# Altium schematic symbol library RF Antennas.SchLib: 2 symbols
Pins are listed as number, name and electrical type; pins without a type are passive.

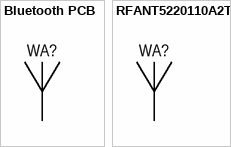
[diagram p0: symbols Bluetooth PCB to RFANT5220110A2T]

## Bluetooth PCB
designator WA?, comment PCB Bluetooth Antenna  (value not drawn)  (no BOM)
Bluetooth PCB Antenna; Group: RF Antennas; Part name: PCB Bluetooth Antenna; Dimension: 14.50mm x 5.50mm
footprint PCB Antenna Bluetooth
pins: 1

## RFANT5220110A2T
designator WA?  (value not drawn)
Bluetooth Chip Antenna; Manufacturer: Walsin Technology Corporation; Group: RF Antennas; Impedance: 50Ω; Power max: 3W; Gain: 2 dBi; Frequency Range: 2.4GHz ～ 2.5GHz; Package: 5220; Part name: RFANT5220110A2T; Operating Temperature: -40°C +85°C; Thickness: 1.15mm; Dimension: 5.20mm x 2.00mm
footprint RFANT5220 (Chip Antenna, Body 5.2x2.0mm)
pins: 1